# Altium schematic symbol library TPD3S0x4.SchLib: 2 symbols
Pins are listed as number, name and electrical type; pins without a type are passive.

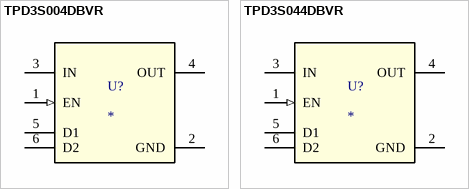
[diagram p0: symbols TPD3S004DBVR to TPD3S044DBVR]

## TPD3S004DBVR
designator U?
Current Limit Switch and D+/D– ESD Protection for USB Host Ports; PartNumber: TPD3S044DBV; Manufacturer: Texas Instruments; CompType: IC; PIN_COUNT: 6; Application_BuildNumber: *; PackageReference: DBV0006A; MountType: SMT; RoHS: Y; RefDes: RefDes; TYPE: TYPE; Value: Value
footprint DBV0006A_N
pins: 1 EN (in), 2 GND (power), 3 IN (power), 4 OUT (power), 5 D1, 6 D2

## TPD3S044DBVR
designator U?
Current Limit Switch and D+/D– ESD Protection for USB Host Ports; PartNumber: TPD3S044DBV; Manufacturer: Texas Instruments; CompType: IC; PIN_COUNT: 6; Application_BuildNumber: *; PackageReference: DBV0006A; MountType: SMT; RoHS: Y; RefDes: RefDes; TYPE: TYPE; Value: Value
footprint DBV0006A_N
pins: 1 EN (in), 2 GND (power), 3 IN (power), 4 OUT (power), 5 D1, 6 D2